# EAGLE library part XC3S50CP132 (library xilinx_spartan3_virtex4_and_5)
Xilinx FPGA
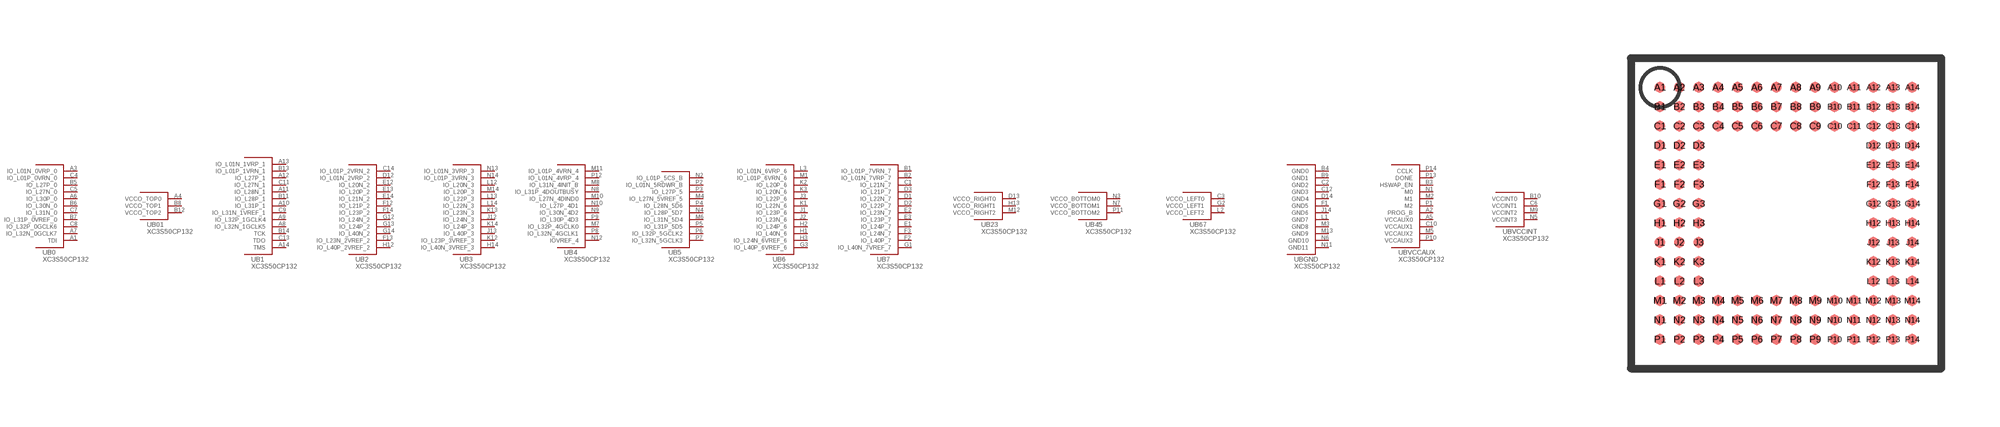
[diagram p2: symbol with the pads of CP132; footprint CP132]

Designator prefix U; gates B0=XC3S50CP132_0 B01=XC3S50CP132_01 B1=XC3S50CP132_1 B2=XC3S50CP132_2 B3=XC3S50CP132_3 B4=XC3S50CP132_4 B5=XC3S50CP132_5 B6=XC3S50CP132_6 B7=XC3S50CP132_7 B23=XC3S50CP132_23 B45=XC3S50CP132_45 B67=XC3S50CP132_67 BGND=XC3S50CP132_GND BVCCAUX=XC3S50CP132_VCCAUX BVCCINT=XC3S50CP132_VCCINT

## XC3S50CP132  [CP132]
A1  B0:TDI
A2  BVCCAUX:PROG_B
A3  B0:IO_L01N_0VRP_0
A4  B01:VCCO_TOP0  pas
A5  BVCCAUX:VCCAUX0  pas
A6  B0:IO_L30P_0
A7  B0:IO_L32N_0GCLK7
A8  B1:IO_L32N_1GCLK5
A9  B1:IO_L32P_1GCLK4
A10  B1:IO_L31P_1
A11  B1:IO_L28N_1
A12  B1:IO_L27P_1
A13  B1:IO_L01N_1VRP_1
A14  B1:TMS
B1  B7:IO_L01P_7VRN_7
B2  B7:IO_L01N_7VRP_7
B3  BVCCAUX:HSWAP_EN
B4  BGND:GND0  pas
B5  B0:IO_L27P_0
B6  B0:IO_L30N_0
B7  B0:IO_L31P_0VREF_0
B8  B01:VCCO_TOP1  pas
B9  BGND:GND1  pas
B10  BVCCINT:VCCINT0  pas
B11  B1:IO_L28P_1
B12  B01:VCCO_TOP2  pas
B13  B1:IO_L01P_1VRN_1
B14  B1:TCK
C1  B7:IO_L21N_7
C2  BGND:GND2  pas
C3  B67:VCCO_LEFT0  pas
C4  B0:IO_L01P_0VRN_0
C5  B0:IO_L27N_0
C6  BVCCINT:VCCINT1  pas
C7  B0:IO_L31N_0
C8  B0:IO_L32P_0GCLK6
C9  B1:IO_L31N_1VREF_1
C10  BVCCAUX:VCCAUX1  pas
C11  B1:IO_L27N_1
C12  BGND:GND3  pas
C13  B1:TDO
C14  B2:IO_L01P_2VRN_2
D1  B7:IO_L22N_7
D2  B7:IO_L22P_7
D3  B7:IO_L21P_7
D12  B2:IO_L01N_2VRP_2
D13  B23:VCCO_RIGHT0  pas
D14  BGND:GND4  pas
E1  B7:IO_L24P_7
E2  B7:IO_L23N_7
E3  B7:IO_L23P_7
E12  B2:IO_L20N_2
E13  B2:IO_L20P_2
E14  B2:IO_L21N_2
F1  BGND:GND5  pas
F2  B7:IO_L40P_7
F3  B7:IO_L24N_7
F12  B2:IO_L21P_2
F13  B2:IO_L23N_2VREF_2
F14  B2:IO_L23P_2
G1  B7:IO_L40N_7VREF_7
G2  B67:VCCO_LEFT1  pas
G3  B6:IO_L40P_6VREF_6
G12  B2:IO_L24N_2
G13  B2:IO_L24P_2
G14  B2:IO_L40N_2
H1  B6:IO_L40N_6
H2  B6:IO_L24P_6
H3  B6:IO_L24N_6VREF_6
H12  B2:IO_L40P_2VREF_2
H13  B23:VCCO_RIGHT1  pas
H14  B3:IO_L40N_3VREF_3
J1  B6:IO_L23P_6
J2  B6:IO_L23N_6
J3  B6:IO_L22P_6
J12  B3:IO_L24N_3
J13  B3:IO_L40P_3
J14  BGND:GND6  pas
K1  B6:IO_L22N_6
K2  B6:IO_L20P_6
K3  B6:IO_L20N_6
K12  B3:IO_L23P_3VREF_3
K13  B3:IO_L23N_3
K14  B3:IO_L24P_3
L1  BGND:GND7  pas
L2  B67:VCCO_LEFT2  pas
L3  B6:IO_L01N_6VRP_6
L12  B3:IO_L20N_3
L13  B3:IO_L22P_3
L14  B3:IO_L22N_3
M1  B6:IO_L01P_6VRN_6
M2  BVCCAUX:M1
M3  BGND:GND8  pas
M4  B5:IO_L27N_5VREF_5
M5  BVCCAUX:VCCAUX2  pas
M6  B5:IO_L31N_5D4
M7  B4:IO_L32P_4GCLK0
M8  B4:IO_L31N_4INIT_B
M9  BVCCINT:VCCINT2  pas
M10  B4:IO_L27N_4DIND0
M11  B4:IO_L01P_4VRN_4
M12  B23:VCCO_RIGHT2  pas
M13  BGND:GND9  pas
M14  B3:IO_L20P_3
N1  BVCCAUX:M0
N2  B5:IO_L01P_5CS_B
N3  B45:VCCO_BOTTOM0  pas
N4  B5:IO_L28P_5D7
N5  BVCCINT:VCCINT3  pas
N6  BGND:GND10  pas
N7  B45:VCCO_BOTTOM1  pas
N8  B4:IO_L31P_4DOUTBUSY
N9  B4:IO_L30N_4D2
N10  B4:IO_L27P_4D1
N11  BGND:GND11  pas
N12  B4:IOVREF_4
N13  B3:IO_L01N_3VRP_3
N14  B3:IO_L01P_3VRN_3
P1  BVCCAUX:M2
P2  B5:IO_L01N_5RDWR_B
P3  B5:IO_L27P_5
P4  B5:IO_L28N_5D6
P5  B5:IO_L31P_5D5
P6  B5:IO_L32P_5GCLK2
P7  B5:IO_L32N_5GCLK3
P8  B4:IO_L32N_4GCLK1
P9  B4:IO_L30P_4D3
P10  BVCCAUX:VCCAUX3  pas
P11  B45:VCCO_BOTTOM2  pas
P12  B4:IO_L01N_4VRP_4
P13  BVCCAUX:DONE
P14  BVCCAUX:CCLK

## Footprint CP132 (pad centres in mm)
smd 0.27 x 0.27: A1 -3.25,3.25; A2 -2.75,3.25; A3 -2.25,3.25; A4 -1.75,3.25; A5 -1.25,3.25; A6 -0.75,3.25; A7 -0.25,3.25; A8 0.25,3.25; A9 0.75,3.25; A10 1.25,3.25; A11 1.75,3.25; A12 2.25,3.25; A13 2.75,3.25; A14 3.25,3.25; B1 -3.25,2.75; B2 -2.75,2.75; B3 -2.25,2.75; B4 -1.75,2.75; B5 -1.25,2.75; B6 -0.75,2.75; B7 -0.25,2.75; B8 0.25,2.75; B9 0.75,2.75; B10 1.25,2.75; B11 1.75,2.75; B12 2.25,2.75; B13 2.75,2.75; B14 3.25,2.75; C1 -3.25,2.25; C2 -2.75,2.25; C3 -2.25,2.25; C4 -1.75,2.25; C5 -1.25,2.25; C6 -0.75,2.25; C7 -0.25,2.25; C8 0.25,2.25; C9 0.75,2.25; C10 1.25,2.25; C11 1.75,2.25; C12 2.25,2.25; C13 2.75,2.25; C14 3.25,2.25; D1 -3.25,1.75; D2 -2.75,1.75; D3 -2.25,1.75; D12 2.25,1.75; D13 2.75,1.75; D14 3.25,1.75; E1 -3.25,1.25; E2 -2.75,1.25; E3 -2.25,1.25; E12 2.25,1.25; E13 2.75,1.25; E14 3.25,1.25; F1 -3.25,0.75; F2 -2.75,0.75; F3 -2.25,0.75; F12 2.25,0.75; F13 2.75,0.75; F14 3.25,0.75; G1 -3.25,0.25; G2 -2.75,0.25; G3 -2.25,0.25; G12 2.25,0.25; G13 2.75,0.25; G14 3.25,0.25; H1 -3.25,-0.25; H2 -2.75,-0.25; H3 -2.25,-0.25; H12 2.25,-0.25; H13 2.75,-0.25; H14 3.25,-0.25; J1 -3.25,-0.75; J2 -2.75,-0.75; J3 -2.25,-0.75; J12 2.25,-0.75; J13 2.75,-0.75; J14 3.25,-0.75; K1 -3.25,-1.25; K2 -2.75,-1.25; K3 -2.25,-1.25; K12 2.25,-1.25; K13 2.75,-1.25; K14 3.25,-1.25; L1 -3.25,-1.75; L2 -2.75,-1.75; L3 -2.25,-1.75; L12 2.25,-1.75; L13 2.75,-1.75; L14 3.25,-1.75; M1 -3.25,-2.25; M2 -2.75,-2.25; M3 -2.25,-2.25; M4 -1.75,-2.25; M5 -1.25,-2.25; M6 -0.75,-2.25; M7 -0.25,-2.25; M8 0.25,-2.25; M9 0.75,-2.25; M10 1.25,-2.25; M11 1.75,-2.25; M12 2.25,-2.25; M13 2.75,-2.25; M14 3.25,-2.25; N1 -3.25,-2.75; N2 -2.75,-2.75; N3 -2.25,-2.75; N4 -1.75,-2.75; N5 -1.25,-2.75; N6 -0.75,-2.75; N7 -0.25,-2.75; N8 0.25,-2.75; N9 0.75,-2.75; N10 1.25,-2.75; N11 1.75,-2.75; N12 2.25,-2.75; N13 2.75,-2.75; N14 3.25,-2.75; P1 -3.25,-3.25; P2 -2.75,-3.25; P3 -2.25,-3.25; P4 -1.75,-3.25; P5 -1.25,-3.25; P6 -0.75,-3.25; P7 -0.25,-3.25; P8 0.25,-3.25; P9 0.75,-3.25; P10 1.25,-3.25; P11 1.75,-3.25; P12 2.25,-3.25; P13 2.75,-3.25; P14 3.25,-3.25